# EAGLE library part NC7WZ16P6X (library RPi_Keypad_Tester)
Dual Buffer Check prices <https://pricing.snapeda.com/parts/NC7WZ16P6X/ON%20Semiconductor/view-part?ref=eda>
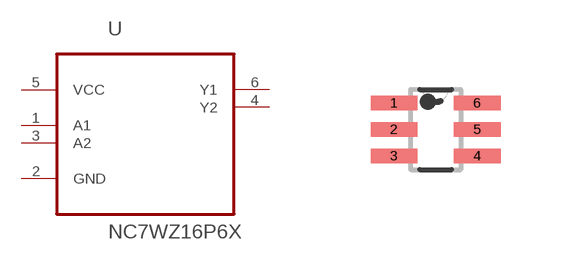
[diagram p6: symbol with the pads of SOT65P210X110-6N; footprint SOT65P210X110-6N]

Designator prefix U

## NC7WZ16P6X (AVAILABILITY: Good; DESCRIPTION: Buffer, Non-Inverting 2 Element 1 Bit per Element Push-Pull Output SC-88 (SC-70-6); MF: ON Semiconductor; MP: NC7WZ16P6X; PACKAGE: SC-88-6 ON Semiconductor; PRICE: None; PURCHASE-URL: https://pricing.snapeda.com/search/part/NC7WZ16P6X/?ref=eda)  [SOT65P210X110-6N]
1  A1  in
2  GND  pas
3  A2  in
4  Y2  out
5  VCC  pwr
6  Y1  out

## Footprint SOT65P210X110-6N (pad centres in mm)
smd 1.168 x 0.356: 1 -1.041,0.66; 2 -1.041,0; 3 -1.041,-0.66; 4 1.041,-0.66; 5 1.041,0; 6 1.041,0.66